# EAGLE library part AS4C128M8D2 (library reclone-rise)
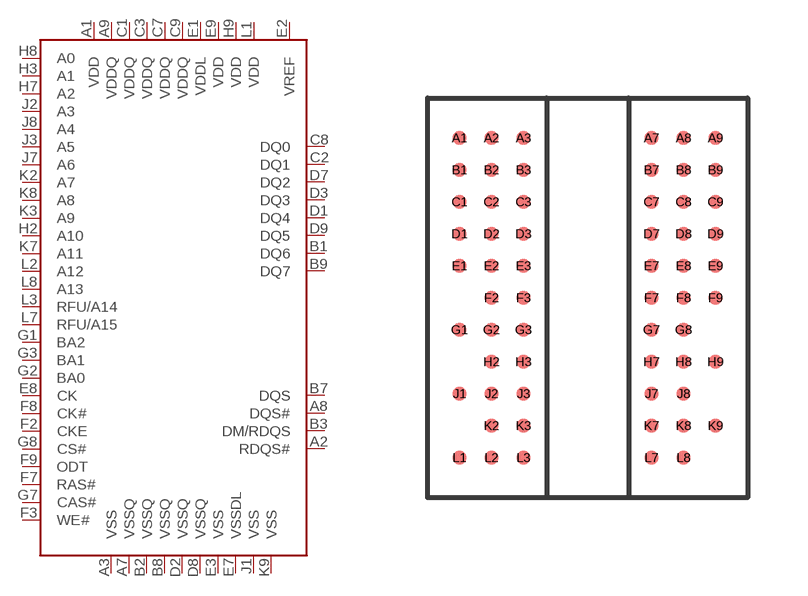
[diagram p18: symbol with the pads of 60-FBGA-8X10; footprint 60-FBGA-8X10]

Designator prefix -

## AS4C128M8D2  [60-FBGA-8X10]
A1  VDD
A2  RDQS#
A3  VSS
A7  VSSQ
A8  DQS#
A9  VDDQ
B1  DQ6
B2  VSSQ
B3  DM/RDQS
B7  DQS
B8  VSSQ
B9  DQ7
C1  VDDQ
C2  DQ1
C3  VDDQ
C7  VDDQ
C8  DQ0
C9  VDDQ
D1  DQ4
D2  VSSQ
D3  DQ3
D7  DQ2
D8  VSSQ
D9  DQ5
E1  VDDL
E2  VREF
E3  VSS
E7  VSSDL
E8  CK
E9  VDD
F2  CKE
F3  WE#
F7  RAS#
F8  CK#
F9  ODT
G1  BA2
G2  BA0
G3  BA1
G7  CAS#
G8  CS#
H2  A10
H3  A1
H7  A2
H8  A0
H9  VDD
J1  VSS
J2  A3
J3  A5
J7  A6
J8  A4
K2  A7
K3  A9
K7  A11
K8  A8
K9  VSS
L1  VDD
L2  A12
L3  RFU/A14
L7  RFU/A15
L8  A13

## Footprint 60-FBGA-8X10 (pad centres in mm)
smd 0.34 x 0.34: A1 -3.2,4; A2 -2.4,4; A3 -1.6,4; A7 1.6,4; A8 2.4,4; A9 3.2,4; B1 -3.2,3.2; B2 -2.4,3.2; B3 -1.6,3.2; B7 1.6,3.2; B8 2.4,3.2; B9 3.2,3.2; C1 -3.2,2.4; C2 -2.4,2.4; C3 -1.6,2.4; C7 1.6,2.4; C8 2.4,2.4; C9 3.2,2.4; D1 -3.2,1.6; D2 -2.4,1.6; D3 -1.6,1.6; D7 1.6,1.6; D8 2.4,1.6; D9 3.2,1.6; E1 -3.2,0.8; E2 -2.4,0.8; E3 -1.6,0.8; E7 1.6,0.8; E8 2.4,0.8; E9 3.2,0.8; F2 -2.4,0; F3 -1.6,0; F7 1.6,0; F8 2.4,0; F9 3.2,0; G1 -3.2,-0.8; G2 -2.4,-0.8; G3 -1.6,-0.8; G7 1.6,-0.8; G8 2.4,-0.8; H2 -2.4,-1.6; H3 -1.6,-1.6; H7 1.6,-1.6; H8 2.4,-1.6; H9 3.2,-1.6; J1 -3.2,-2.4; J2 -2.4,-2.4; J3 -1.6,-2.4; J7 1.6,-2.4; J8 2.4,-2.4; K2 -2.4,-3.2; K3 -1.6,-3.2; K7 1.6,-3.2; K8 2.4,-3.2; K9 3.2,-3.2; L1 -3.2,-4; L2 -2.4,-4; L3 -1.6,-4; L7 1.6,-4; L8 2.4,-4